# EAGLE library part PTN78020W (library BlueBoard)
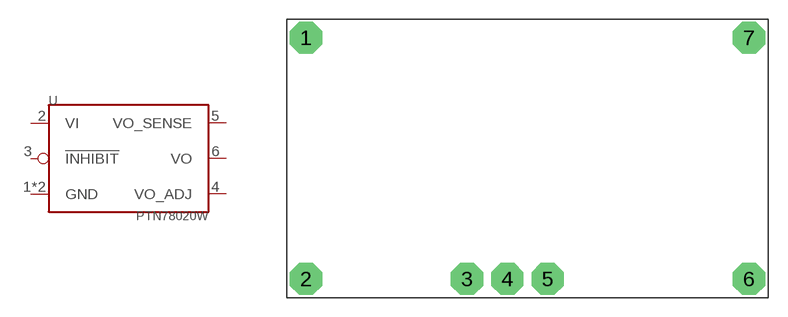
[diagram p1: symbol with the pads of PTN78020; footprint PTN78020]

Designator prefix -

## PTN78020W  [PTN78020]
1  GND  pwr
2  VI  pwr
3  !INHIBIT!  in
4  VO_ADJ  pwr
5  VO_SENSE  in
6  VO  pwr
7  GND  pwr

## Footprint PTN78020 (pad centres in mm)
drill 1.4 pad 2.54 octagon: 1 -17.462,9.525; 2 -17.462,-9.525; 3 -4.763,-9.525; 4 -1.587,-9.525; 5 1.587,-9.525; 6 17.462,-9.525; 7 17.462,9.525